# Altium integrated library Texas Instruments Interface I2C.IntLib: 424 symbols (part 9 of 23)
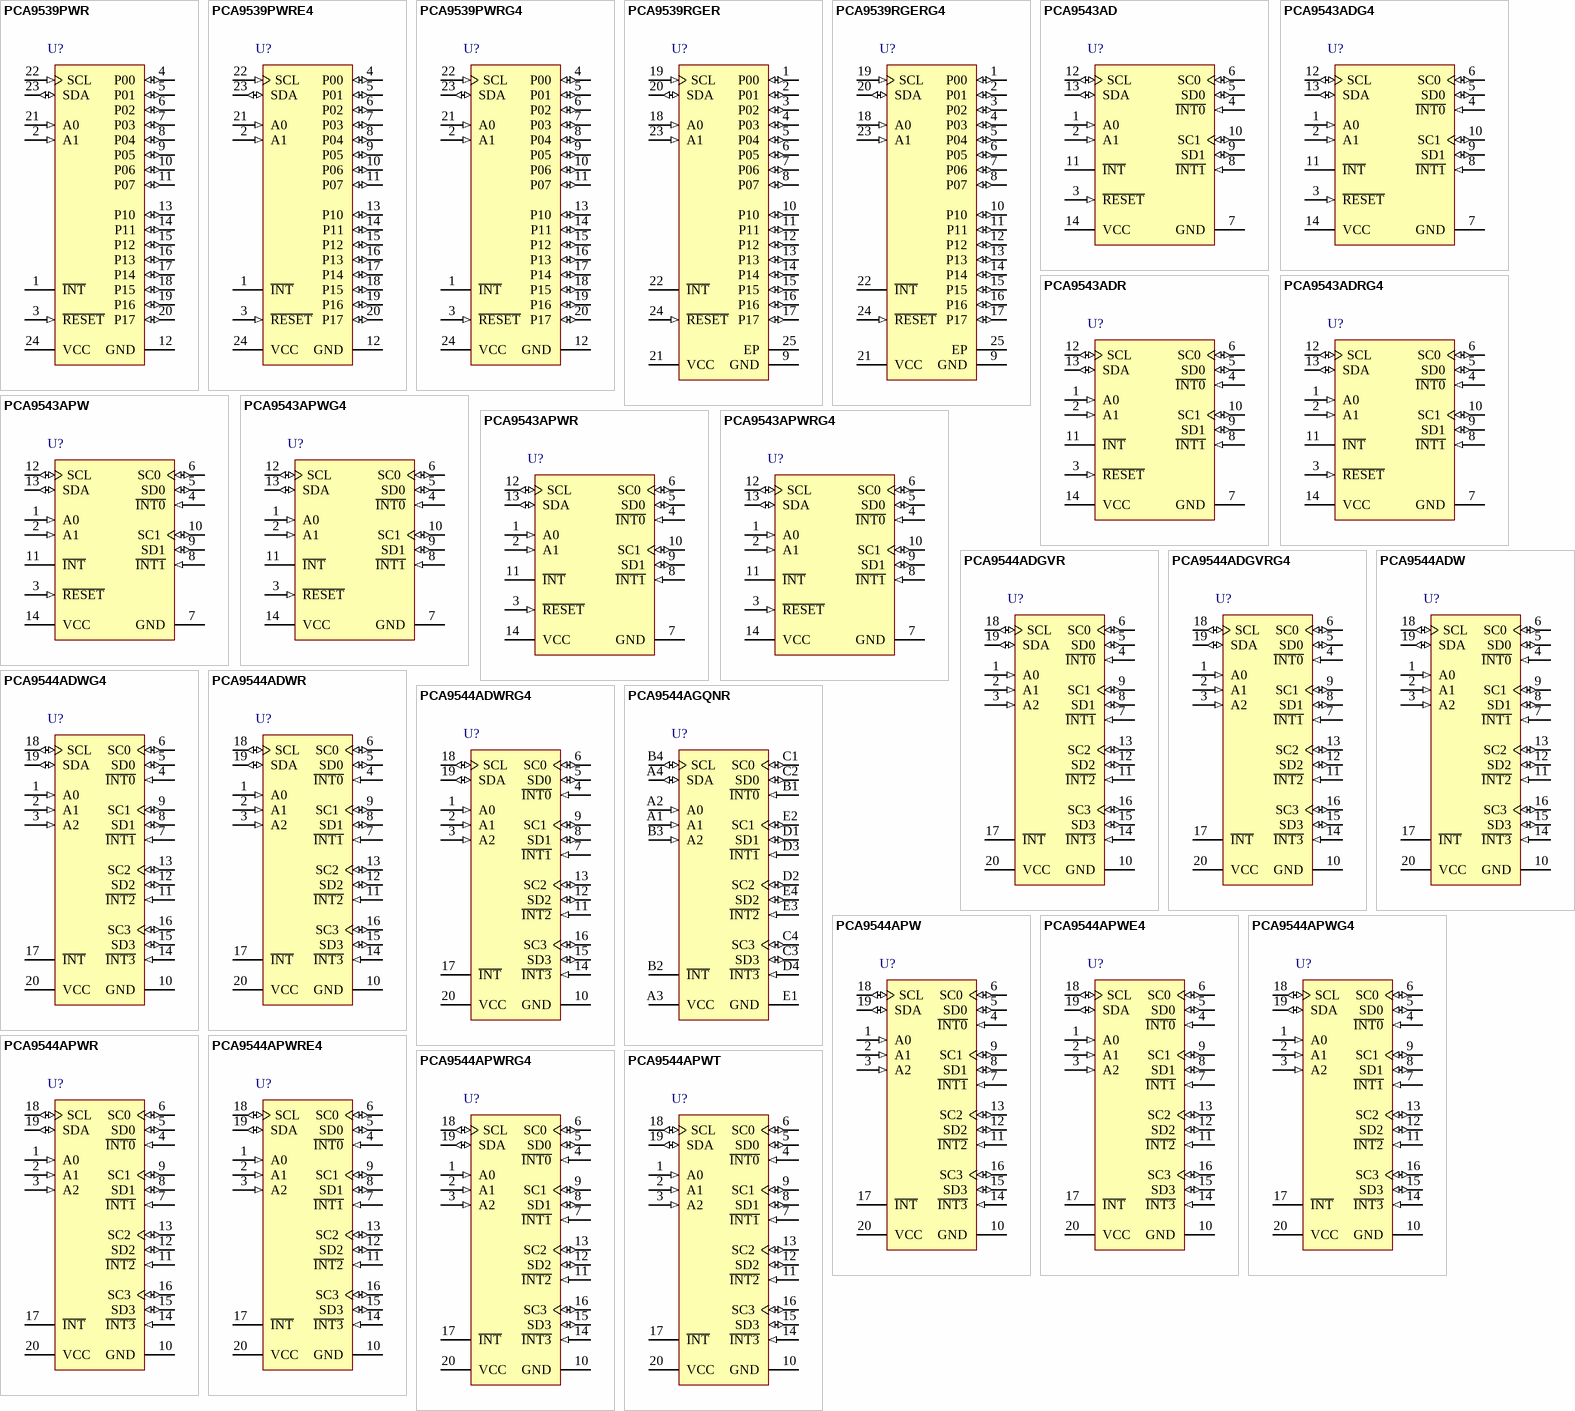
[diagram p21: symbols PCA9539PWR to PCA9544APWT]

## PCA9544APWG4
designator U?
4-Channel I2C and SMBus Multiplexer with Interrupt Logic, 2.3 to 5.5 V, -40 to 85 degC, 0-pin TSSOP (PW), Green (RoHS & no Sb/Br); Manufacturer: Texas Instruments; PartNumber: PCA9544APWG4; SubFamily: I2C Multiplexer, Switch; tpd max(ns): 0.3, 1; Interrupt Output: Yes; fSCLK(Max)(MHz): 0.1, 0.4; VCC(Min)(V): 2.3; VCC(Max)(V): 5.5; Max Frequency(kHz): 400; I2C Address: 1110 xxx; Channel Width: 4; Simultaneously Active Channels: 1; DatasheetVersion: SCPS146D; PackageVersion: revG, Feb-2011; PackageReference: PW20; PackageDescription: 20-Pin Plastic Thin Small Outline Package 6.5 x 4.4 mm Body ,0.65 mm Pitch; Supplier 1: Digi-Key; Supplier Part Number 1: PCA9544APWG4-ND; Supplier 2: Newark; Supplier Part Number 2: 46M6777; Supplier 3: Mouser; Supplier Part Number 3: 595-PCA9544APWG4; Eco-Plan: Green (RoHS & no Sb/Br); Vcc range(V): 2.3 to 5.5; 5V Tolerant I/O: Yes; Open Drain I/O Type: Yes; Mounting Technology: Surface Mount; Code_JEDEC: MO-153; ComponentLink1Description: Datasheet; ComponentLink1URL: http://www.ti.com/general/docs/lit/getliterature.tsp?genericPartNumber=PCA9544A&fileType=pdf
footprint PW20_N (TSOP, 20-Leads, Body 6.5x4.4mm, Pitch 0.65mm, IPC Medium Density)
footprint PW20_L (TSOP, 20-Leads, Body 6.5x4.4mm, Pitch 0.65mm, IPC High Density)
footprint PW20_M (TSOP, 20-Leads, Body 6.5x4.4mm, Pitch 0.65mm, IPC Low Density)
pins: 1 A0 (in) "Address input 0. Connect directly to VCC or ground.", 2 A1 (in) "Address input 1. Connect directly to VCC or ground.", 3 A2 (in) "Address input 2. Connect directly to VCC or ground.", 4 ~{INT0} (in) "Active-low interrupt input 0. Connect to VCC through a pullup resistor.", 5 SD0 (io) "Serial data 0. Connect to VCC through a pullup resistor.", 6 SC0 (io) "Serial clock 0. Connect to VCC through a pullup resistor.", 7 ~{INT1} (in) "Active-low interrupt input 1. Connect to VCC through a pullup resistor.", 8 SD1 (io) "Serial data 1. Connect to VCC through a pullup resistor.", 9 SC1 (io) "Serial clock 1. Connect to VCC through a pullup resistor.", 10 GND (power) "Ground", 11 ~{INT2} (in) "Active-low interrupt input 2. Connect to VCC through a pullup resistor.", 12 SD2 (io) "Serial data 2. Connect to VCC through a pullup resistor.", 13 SC2 (io) "Serial clock 2. Connect to VCC through a pullup resistor.", 14 ~{INT3} (in) "Active-low interrupt input 3. Connect to VCC through a pullup resistor.", 15 SD3 (io) "Serial data 3. Connect to VCC through a pullup resistor.", 16 SC3 (io) "Serial clock 3. Connect to VCC through a pullup resistor.", 17 ~{INT} (oc) "Active-low interrupt output. Connect to VCC through a pullup resistor.", 18 SCL (io) "Serial clock line. Connect to VCC through a pullup resistor.", 19 SDA (io) "Serial data line. Connect to VCC through a pullup resistor.", 20 VCC (power) "Supply power"

## PCA9544APWR
designator U?
4-Channel I2C and SMBus Multiplexer with Interrupt Logic, 2.3 to 5.5 V, -40 to 85 degC, 0-pin TSSOP (PW), Green (RoHS & no Sb/Br); Manufacturer: Texas Instruments; PartNumber: PCA9544APWR; SubFamily: I2C Multiplexer, Switch; tpd max(ns): 0.3, 1; Interrupt Output: Yes; fSCLK(Max)(MHz): 0.1, 0.4; VCC(Min)(V): 2.3; VCC(Max)(V): 5.5; Max Frequency(kHz): 400; I2C Address: 1110 xxx; Channel Width: 4; Simultaneously Active Channels: 1; DatasheetVersion: SCPS146D; PackageVersion: revG, Feb-2011; PackageReference: PW20; PackageDescription: 20-Pin Plastic Thin Small Outline Package 6.5 x 4.4 mm Body ,0.65 mm Pitch; Supplier 1: Digi-Key; Supplier Part Number 1: 296-20959-2-ND; Supplier 2: Digi-Key; Supplier Part Number 2: 296-20959-1-ND; Supplier 3: Digi-Key; Supplier Part Number 3: 296-20959-6-ND; Supplier 4: Farnell; Supplier Part Number 4: 1575274; Supplier 5: Newark; Supplier Part Number 5: 66K4024; Supplier 6: Mouser; Supplier Part Number 6: 595-PCA9544APWR; Eco-Plan: Green (RoHS & no Sb/Br); Vcc range(V): 2.3 to 5.5; 5V Tolerant I/O: Yes; Open Drain I/O Type: Yes; Mounting Technology: Surface Mount; Code_JEDEC: MO-153; ComponentLink1Description: Datasheet; ComponentLink1URL: http://www.ti.com/general/docs/lit/getliterature.tsp?genericPartNumber=PCA9544A&fileType=pdf
footprint PW20_N (TSOP, 20-Leads, Body 6.5x4.4mm, Pitch 0.65mm, IPC Medium Density)
footprint PW20_L (TSOP, 20-Leads, Body 6.5x4.4mm, Pitch 0.65mm, IPC High Density)
footprint PW20_M (TSOP, 20-Leads, Body 6.5x4.4mm, Pitch 0.65mm, IPC Low Density)
pins: 1 A0 (in) "Address input 0. Connect directly to VCC or ground.", 2 A1 (in) "Address input 1. Connect directly to VCC or ground.", 3 A2 (in) "Address input 2. Connect directly to VCC or ground.", 4 ~{INT0} (in) "Active-low interrupt input 0. Connect to VCC through a pullup resistor.", 5 SD0 (io) "Serial data 0. Connect to VCC through a pullup resistor.", 6 SC0 (io) "Serial clock 0. Connect to VCC through a pullup resistor.", 7 ~{INT1} (in) "Active-low interrupt input 1. Connect to VCC through a pullup resistor.", 8 SD1 (io) "Serial data 1. Connect to VCC through a pullup resistor.", 9 SC1 (io) "Serial clock 1. Connect to VCC through a pullup resistor.", 10 GND (power) "Ground", 11 ~{INT2} (in) "Active-low interrupt input 2. Connect to VCC through a pullup resistor.", 12 SD2 (io) "Serial data 2. Connect to VCC through a pullup resistor.", 13 SC2 (io) "Serial clock 2. Connect to VCC through a pullup resistor.", 14 ~{INT3} (in) "Active-low interrupt input 3. Connect to VCC through a pullup resistor.", 15 SD3 (io) "Serial data 3. Connect to VCC through a pullup resistor.", 16 SC3 (io) "Serial clock 3. Connect to VCC through a pullup resistor.", 17 ~{INT} (oc) "Active-low interrupt output. Connect to VCC through a pullup resistor.", 18 SCL (io) "Serial clock line. Connect to VCC through a pullup resistor.", 19 SDA (io) "Serial data line. Connect to VCC through a pullup resistor.", 20 VCC (power) "Supply power"

## PCA9544APWRE4
designator U?
4-Channel I2C and SMBus Multiplexer with Interrupt Logic, 2.3 to 5.5 V, -40 to 85 degC, 0-pin TSSOP (PW), Green (RoHS & no Sb/Br); Manufacturer: Texas Instruments; PartNumber: PCA9544APWRE4; SubFamily: I2C Multiplexer, Switch; tpd max(ns): 0.3, 1; Interrupt Output: Yes; fSCLK(Max)(MHz): 0.1, 0.4; VCC(Min)(V): 2.3; VCC(Max)(V): 5.5; Max Frequency(kHz): 400; I2C Address: 1110 xxx; Channel Width: 4; Simultaneously Active Channels: 1; DatasheetVersion: SCPS146D; PackageVersion: revG, Feb-2011; PackageReference: PW20; PackageDescription: 20-Pin Plastic Thin Small Outline Package 6.5 x 4.4 mm Body ,0.65 mm Pitch; Supplier 1: Digi-Key; Supplier Part Number 1: PCA9544APWRE4-ND; Supplier 2: Mouser; Supplier Part Number 2: 595-PCA9544APWRE4; Eco-Plan: Green (RoHS & no Sb/Br); Vcc range(V): 2.3 to 5.5; 5V Tolerant I/O: Yes; Open Drain I/O Type: Yes; Mounting Technology: Surface Mount; Code_JEDEC: MO-153; ComponentLink1Description: Datasheet; ComponentLink1URL: http://www.ti.com/general/docs/lit/getliterature.tsp?genericPartNumber=PCA9544A&fileType=pdf
footprint PW20_N (TSOP, 20-Leads, Body 6.5x4.4mm, Pitch 0.65mm, IPC Medium Density)
footprint PW20_L (TSOP, 20-Leads, Body 6.5x4.4mm, Pitch 0.65mm, IPC High Density)
footprint PW20_M (TSOP, 20-Leads, Body 6.5x4.4mm, Pitch 0.65mm, IPC Low Density)
pins: 1 A0 (in) "Address input 0. Connect directly to VCC or ground.", 2 A1 (in) "Address input 1. Connect directly to VCC or ground.", 3 A2 (in) "Address input 2. Connect directly to VCC or ground.", 4 ~{INT0} (in) "Active-low interrupt input 0. Connect to VCC through a pullup resistor.", 5 SD0 (io) "Serial data 0. Connect to VCC through a pullup resistor.", 6 SC0 (io) "Serial clock 0. Connect to VCC through a pullup resistor.", 7 ~{INT1} (in) "Active-low interrupt input 1. Connect to VCC through a pullup resistor.", 8 SD1 (io) "Serial data 1. Connect to VCC through a pullup resistor.", 9 SC1 (io) "Serial clock 1. Connect to VCC through a pullup resistor.", 10 GND (power) "Ground", 11 ~{INT2} (in) "Active-low interrupt input 2. Connect to VCC through a pullup resistor.", 12 SD2 (io) "Serial data 2. Connect to VCC through a pullup resistor.", 13 SC2 (io) "Serial clock 2. Connect to VCC through a pullup resistor.", 14 ~{INT3} (in) "Active-low interrupt input 3. Connect to VCC through a pullup resistor.", 15 SD3 (io) "Serial data 3. Connect to VCC through a pullup resistor.", 16 SC3 (io) "Serial clock 3. Connect to VCC through a pullup resistor.", 17 ~{INT} (oc) "Active-low interrupt output. Connect to VCC through a pullup resistor.", 18 SCL (io) "Serial clock line. Connect to VCC through a pullup resistor.", 19 SDA (io) "Serial data line. Connect to VCC through a pullup resistor.", 20 VCC (power) "Supply power"

## PCA9544APWRG4
designator U?
4-Channel I2C and SMBus Multiplexer with Interrupt Logic, 2.3 to 5.5 V, -40 to 85 degC, 0-pin TSSOP (PW), Green (RoHS & no Sb/Br); Manufacturer: Texas Instruments; PartNumber: PCA9544APWRG4; SubFamily: I2C Multiplexer, Switch; tpd max(ns): 0.3, 1; Interrupt Output: Yes; fSCLK(Max)(MHz): 0.1, 0.4; VCC(Min)(V): 2.3; VCC(Max)(V): 5.5; Max Frequency(kHz): 400; I2C Address: 1110 xxx; Channel Width: 4; Simultaneously Active Channels: 1; DatasheetVersion: SCPS146D; PackageVersion: revG, Feb-2011; PackageReference: PW20; PackageDescription: 20-Pin Plastic Thin Small Outline Package 6.5 x 4.4 mm Body ,0.65 mm Pitch; Supplier 1: Digi-Key; Supplier Part Number 1: PCA9544APWRG4-ND; Supplier 2: Mouser; Supplier Part Number 2: 595-PCA9544APWRG4; Eco-Plan: Green (RoHS & no Sb/Br); Vcc range(V): 2.3 to 5.5; 5V Tolerant I/O: Yes; Open Drain I/O Type: Yes; Mounting Technology: Surface Mount; Code_JEDEC: MO-153; ComponentLink1Description: Datasheet; ComponentLink1URL: http://www.ti.com/general/docs/lit/getliterature.tsp?genericPartNumber=PCA9544A&fileType=pdf
footprint PW20_N (TSOP, 20-Leads, Body 6.5x4.4mm, Pitch 0.65mm, IPC Medium Density)
footprint PW20_L (TSOP, 20-Leads, Body 6.5x4.4mm, Pitch 0.65mm, IPC High Density)
footprint PW20_M (TSOP, 20-Leads, Body 6.5x4.4mm, Pitch 0.65mm, IPC Low Density)
pins: 1 A0 (in) "Address input 0. Connect directly to VCC or ground.", 2 A1 (in) "Address input 1. Connect directly to VCC or ground.", 3 A2 (in) "Address input 2. Connect directly to VCC or ground.", 4 ~{INT0} (in) "Active-low interrupt input 0. Connect to VCC through a pullup resistor.", 5 SD0 (io) "Serial data 0. Connect to VCC through a pullup resistor.", 6 SC0 (io) "Serial clock 0. Connect to VCC through a pullup resistor.", 7 ~{INT1} (in) "Active-low interrupt input 1. Connect to VCC through a pullup resistor.", 8 SD1 (io) "Serial data 1. Connect to VCC through a pullup resistor.", 9 SC1 (io) "Serial clock 1. Connect to VCC through a pullup resistor.", 10 GND (power) "Ground", 11 ~{INT2} (in) "Active-low interrupt input 2. Connect to VCC through a pullup resistor.", 12 SD2 (io) "Serial data 2. Connect to VCC through a pullup resistor.", 13 SC2 (io) "Serial clock 2. Connect to VCC through a pullup resistor.", 14 ~{INT3} (in) "Active-low interrupt input 3. Connect to VCC through a pullup resistor.", 15 SD3 (io) "Serial data 3. Connect to VCC through a pullup resistor.", 16 SC3 (io) "Serial clock 3. Connect to VCC through a pullup resistor.", 17 ~{INT} (oc) "Active-low interrupt output. Connect to VCC through a pullup resistor.", 18 SCL (io) "Serial clock line. Connect to VCC through a pullup resistor.", 19 SDA (io) "Serial data line. Connect to VCC through a pullup resistor.", 20 VCC (power) "Supply power"

## PCA9544APWT
designator U?
4-Channel I2C and SMBus Multiplexer with Interrupt Logic, 2.3 to 5.5 V, -40 to 85 degC, 0-pin TSSOP (PW), Green (RoHS & no Sb/Br); Manufacturer: Texas Instruments; PartNumber: PCA9544APWT; SubFamily: I2C Multiplexer, Switch; tpd max(ns): 0.3, 1; Interrupt Output: Yes; fSCLK(Max)(MHz): 0.1, 0.4; VCC(Min)(V): 2.3; VCC(Max)(V): 5.5; Max Frequency(kHz): 400; I2C Address: 1110 xxx; Channel Width: 4; Simultaneously Active Channels: 1; DatasheetVersion: SCPS146D; PackageVersion: revG, Feb-2011; PackageReference: PW20; PackageDescription: 20-Pin Plastic Thin Small Outline Package 6.5 x 4.4 mm Body ,0.65 mm Pitch; Supplier 1: Digi-Key; Supplier Part Number 1: 296-28988-2-ND; Supplier 2: Digi-Key; Supplier Part Number 2: 296-28988-1-ND; Supplier 3: Digi-Key; Supplier Part Number 3: 296-28988-6-ND; Supplier 4: Mouser; Supplier Part Number 4: 595-PCA9544APWT; Eco-Plan: Green (RoHS & no Sb/Br); Vcc range(V): 2.3 to 5.5; 5V Tolerant I/O: Yes; Open Drain I/O Type: Yes; Mounting Technology: Surface Mount; Code_JEDEC: MO-153; ComponentLink1Description: Datasheet; ComponentLink1URL: http://www.ti.com/general/docs/lit/getliterature.tsp?genericPartNumber=PCA9544A&fileType=pdf
footprint PW20_N (TSOP, 20-Leads, Body 6.5x4.4mm, Pitch 0.65mm, IPC Medium Density)
footprint PW20_L (TSOP, 20-Leads, Body 6.5x4.4mm, Pitch 0.65mm, IPC High Density)
footprint PW20_M (TSOP, 20-Leads, Body 6.5x4.4mm, Pitch 0.65mm, IPC Low Density)
pins: 1 A0 (in) "Address input 0. Connect directly to VCC or ground.", 2 A1 (in) "Address input 1. Connect directly to VCC or ground.", 3 A2 (in) "Address input 2. Connect directly to VCC or ground.", 4 ~{INT0} (in) "Active-low interrupt input 0. Connect to VCC through a pullup resistor.", 5 SD0 (io) "Serial data 0. Connect to VCC through a pullup resistor.", 6 SC0 (io) "Serial clock 0. Connect to VCC through a pullup resistor.", 7 ~{INT1} (in) "Active-low interrupt input 1. Connect to VCC through a pullup resistor.", 8 SD1 (io) "Serial data 1. Connect to VCC through a pullup resistor.", 9 SC1 (io) "Serial clock 1. Connect to VCC through a pullup resistor.", 10 GND (power) "Ground", 11 ~{INT2} (in) "Active-low interrupt input 2. Connect to VCC through a pullup resistor.", 12 SD2 (io) "Serial data 2. Connect to VCC through a pullup resistor.", 13 SC2 (io) "Serial clock 2. Connect to VCC through a pullup resistor.", 14 ~{INT3} (in) "Active-low interrupt input 3. Connect to VCC through a pullup resistor.", 15 SD3 (io) "Serial data 3. Connect to VCC through a pullup resistor.", 16 SC3 (io) "Serial clock 3. Connect to VCC through a pullup resistor.", 17 ~{INT} (oc) "Active-low interrupt output. Connect to VCC through a pullup resistor.", 18 SCL (io) "Serial clock line. Connect to VCC through a pullup resistor.", 19 SDA (io) "Serial data line. Connect to VCC through a pullup resistor.", 20 VCC (power) "Supply power"

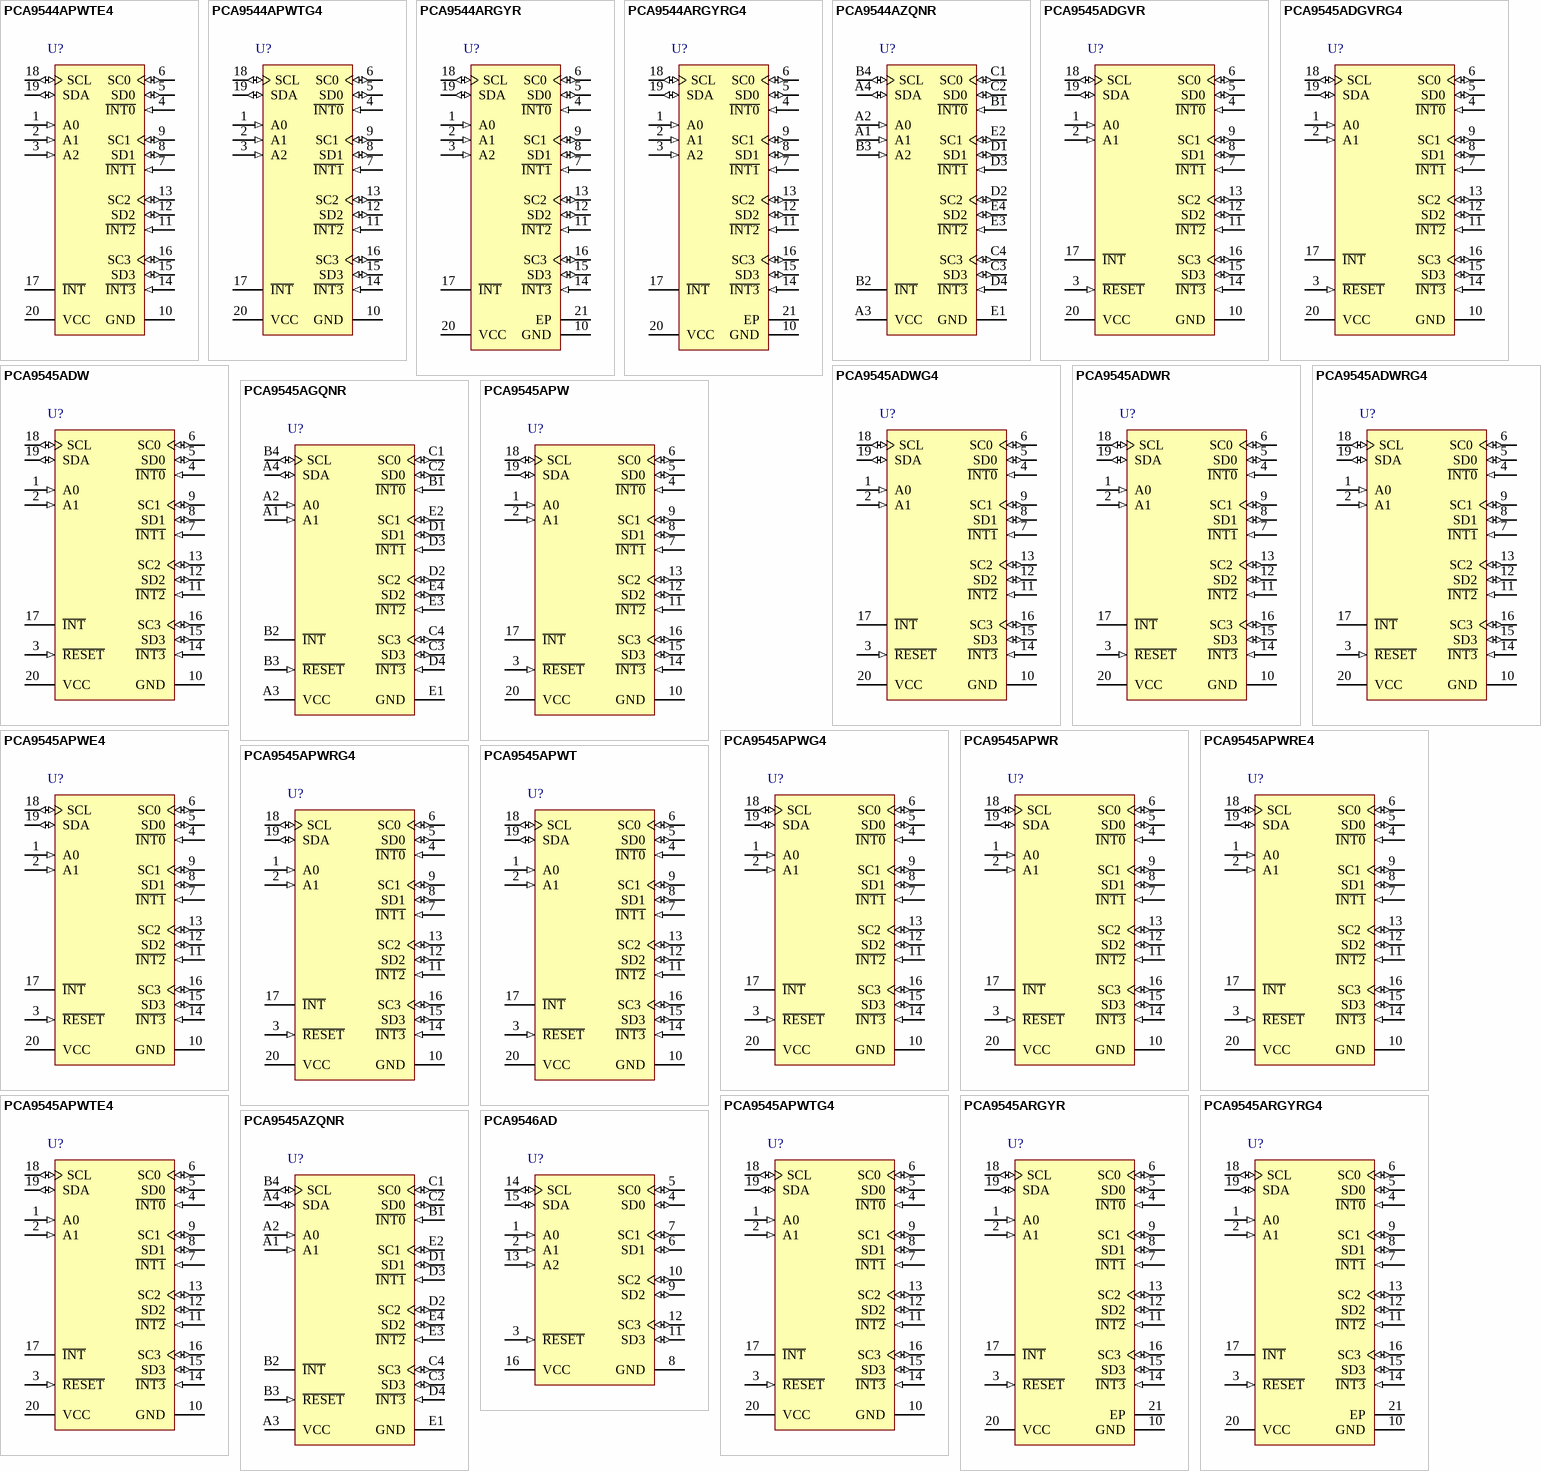
[diagram p5: symbols PCA9544APWTE4 to PCA9546AD]

## PCA9544APWTE4
designator U?
4-Channel I2C and SMBus Multiplexer with Interrupt Logic, 2.3 to 5.5 V, -40 to 85 degC, 0-pin TSSOP (PW), Green (RoHS & no Sb/Br); Manufacturer: Texas Instruments; PartNumber: PCA9544APWTE4; SubFamily: I2C Multiplexer, Switch; tpd max(ns): 0.3, 1; Interrupt Output: Yes; fSCLK(Max)(MHz): 0.1, 0.4; VCC(Min)(V): 2.3; VCC(Max)(V): 5.5; Max Frequency(kHz): 400; I2C Address: 1110 xxx; Channel Width: 4; Simultaneously Active Channels: 1; DatasheetVersion: SCPS146D; PackageVersion: revG, Feb-2011; PackageReference: PW20; PackageDescription: 20-Pin Plastic Thin Small Outline Package 6.5 x 4.4 mm Body ,0.65 mm Pitch; Supplier 1: Digi-Key; Supplier Part Number 1: PCA9544APWTE4-ND; Supplier 2: Mouser; Supplier Part Number 2: 595-PCA9544APWTE4; Eco-Plan: Green (RoHS & no Sb/Br); Vcc range(V): 2.3 to 5.5; 5V Tolerant I/O: Yes; Open Drain I/O Type: Yes; Mounting Technology: Surface Mount; Code_JEDEC: MO-153; ComponentLink1Description: Datasheet; ComponentLink1URL: http://www.ti.com/general/docs/lit/getliterature.tsp?genericPartNumber=PCA9544A&fileType=pdf
footprint PW20_N (TSOP, 20-Leads, Body 6.5x4.4mm, Pitch 0.65mm, IPC Medium Density)
footprint PW20_L (TSOP, 20-Leads, Body 6.5x4.4mm, Pitch 0.65mm, IPC High Density)
footprint PW20_M (TSOP, 20-Leads, Body 6.5x4.4mm, Pitch 0.65mm, IPC Low Density)
pins: 1 A0 (in) "Address input 0. Connect directly to VCC or ground.", 2 A1 (in) "Address input 1. Connect directly to VCC or ground.", 3 A2 (in) "Address input 2. Connect directly to VCC or ground.", 4 ~{INT0} (in) "Active-low interrupt input 0. Connect to VCC through a pullup resistor.", 5 SD0 (io) "Serial data 0. Connect to VCC through a pullup resistor.", 6 SC0 (io) "Serial clock 0. Connect to VCC through a pullup resistor.", 7 ~{INT1} (in) "Active-low interrupt input 1. Connect to VCC through a pullup resistor.", 8 SD1 (io) "Serial data 1. Connect to VCC through a pullup resistor.", 9 SC1 (io) "Serial clock 1. Connect to VCC through a pullup resistor.", 10 GND (power) "Ground", 11 ~{INT2} (in) "Active-low interrupt input 2. Connect to VCC through a pullup resistor.", 12 SD2 (io) "Serial data 2. Connect to VCC through a pullup resistor.", 13 SC2 (io) "Serial clock 2. Connect to VCC through a pullup resistor.", 14 ~{INT3} (in) "Active-low interrupt input 3. Connect to VCC through a pullup resistor.", 15 SD3 (io) "Serial data 3. Connect to VCC through a pullup resistor.", 16 SC3 (io) "Serial clock 3. Connect to VCC through a pullup resistor.", 17 ~{INT} (oc) "Active-low interrupt output. Connect to VCC through a pullup resistor.", 18 SCL (io) "Serial clock line. Connect to VCC through a pullup resistor.", 19 SDA (io) "Serial data line. Connect to VCC through a pullup resistor.", 20 VCC (power) "Supply power"

## PCA9544APWTG4
designator U?
4-Channel I2C and SMBus Multiplexer with Interrupt Logic, 2.3 to 5.5 V, -40 to 85 degC, 0-pin TSSOP (PW), Green (RoHS & no Sb/Br); Manufacturer: Texas Instruments; PartNumber: PCA9544APWTG4; SubFamily: I2C Multiplexer, Switch; tpd max(ns): 0.3, 1; Interrupt Output: Yes; fSCLK(Max)(MHz): 0.1, 0.4; VCC(Min)(V): 2.3; VCC(Max)(V): 5.5; Max Frequency(kHz): 400; I2C Address: 1110 xxx; Channel Width: 4; Simultaneously Active Channels: 1; DatasheetVersion: SCPS146D; PackageVersion: revG, Feb-2011; PackageReference: PW20; PackageDescription: 20-Pin Plastic Thin Small Outline Package 6.5 x 4.4 mm Body ,0.65 mm Pitch; Supplier 1: Digi-Key; Supplier Part Number 1: PCA9544APWTG4-ND; Supplier 2: Mouser; Supplier Part Number 2: 595-PCA9544APWTG4; Eco-Plan: Green (RoHS & no Sb/Br); Vcc range(V): 2.3 to 5.5; 5V Tolerant I/O: Yes; Open Drain I/O Type: Yes; Mounting Technology: Surface Mount; Code_JEDEC: MO-153; ComponentLink1Description: Datasheet; ComponentLink1URL: http://www.ti.com/general/docs/lit/getliterature.tsp?genericPartNumber=PCA9544A&fileType=pdf
footprint PW20_N (TSOP, 20-Leads, Body 6.5x4.4mm, Pitch 0.65mm, IPC Medium Density)
footprint PW20_L (TSOP, 20-Leads, Body 6.5x4.4mm, Pitch 0.65mm, IPC High Density)
footprint PW20_M (TSOP, 20-Leads, Body 6.5x4.4mm, Pitch 0.65mm, IPC Low Density)
pins: 1 A0 (in) "Address input 0. Connect directly to VCC or ground.", 2 A1 (in) "Address input 1. Connect directly to VCC or ground.", 3 A2 (in) "Address input 2. Connect directly to VCC or ground.", 4 ~{INT0} (in) "Active-low interrupt input 0. Connect to VCC through a pullup resistor.", 5 SD0 (io) "Serial data 0. Connect to VCC through a pullup resistor.", 6 SC0 (io) "Serial clock 0. Connect to VCC through a pullup resistor.", 7 ~{INT1} (in) "Active-low interrupt input 1. Connect to VCC through a pullup resistor.", 8 SD1 (io) "Serial data 1. Connect to VCC through a pullup resistor.", 9 SC1 (io) "Serial clock 1. Connect to VCC through a pullup resistor.", 10 GND (power) "Ground", 11 ~{INT2} (in) "Active-low interrupt input 2. Connect to VCC through a pullup resistor.", 12 SD2 (io) "Serial data 2. Connect to VCC through a pullup resistor.", 13 SC2 (io) "Serial clock 2. Connect to VCC through a pullup resistor.", 14 ~{INT3} (in) "Active-low interrupt input 3. Connect to VCC through a pullup resistor.", 15 SD3 (io) "Serial data 3. Connect to VCC through a pullup resistor.", 16 SC3 (io) "Serial clock 3. Connect to VCC through a pullup resistor.", 17 ~{INT} (oc) "Active-low interrupt output. Connect to VCC through a pullup resistor.", 18 SCL (io) "Serial clock line. Connect to VCC through a pullup resistor.", 19 SDA (io) "Serial data line. Connect to VCC through a pullup resistor.", 20 VCC (power) "Supply power"

## PCA9544ARGYR
designator U?
4-Channel I2C and SMBus Multiplexer with Interrupt Logic, 2.3 to 5.5 V, -40 to 85 degC, 20-pin VQFN (RGY), Green (RoHS & no Sb/Br); Manufacturer: Texas Instruments; PartNumber: PCA9544ARGYR; SubFamily: I2C Multiplexer, Switch; tpd max(ns): 0.3, 1; Interrupt Output: Yes; fSCLK(Max)(MHz): 0.1, 0.4; VCC(Min)(V): 2.3; VCC(Max)(V): 5.5; Max Frequency(kHz): 400; I2C Address: 1110 xxx; Channel Width: 4; Simultaneously Active Channels: 1; DatasheetVersion: SCPS146D; PackageVersion: revI, Jun-2011; PackageReference: RGY20-3050X2050TP; PackageDescription: 20-Leads Plastic Quad Flatpack No-Lead, 3.5 x 4.5 x 0.9 mm Body, 0.5 mm Pitch; Supplier 1: Digi-Key; Supplier Part Number 1: 296-20960-2-ND; Supplier 2: Digi-Key; Supplier Part Number 2: 296-20960-1-ND; Supplier 3: Digi-Key; Supplier Part Number 3: 296-20960-6-ND; Supplier 4: Mouser; Supplier Part Number 4: 595-PCA9544ARGYR; Eco-Plan: Green (RoHS & no Sb/Br); Vcc range(V): 2.3 to 5.5; 5V Tolerant I/O: Yes; Open Drain I/O Type: Yes; Mounting Technology: Surface Mount; Code_JEDEC: MO-241-BA; ComponentLink1Description: Datasheet; ComponentLink1URL: http://www.ti.com/general/docs/lit/getliterature.tsp?genericPartNumber=PCA9544A&fileType=pdf; ComponentLink2Description: Package Specification; ComponentLink2URL: http://www.ti.com/litv/pdf/mpds006c
footprint RGY20-3050X2050TP (QFN, 20-Leads, Body 4.5x3.5mm, Pitch 0.5mm, Thermal Pad 3.05x2.05mm, TI Recommended)
pins: 1 A0 (in) "Address input 0. Connect directly to VCC or ground.", 2 A1 (in) "Address input 1. Connect directly to VCC or ground.", 3 A2 (in) "Address input 2. Connect directly to VCC or ground.", 4 ~{INT0} (in) "Active-low interrupt input 0. Connect to VCC through a pullup resistor.", 5 SD0 (io) "Serial data 0. Connect to VCC through a pullup resistor.", 6 SC0 (io) "Serial clock 0. Connect to VCC through a pullup resistor.", 7 ~{INT1} (in) "Active-low interrupt input 1. Connect to VCC through a pullup resistor.", 8 SD1 (io) "Serial data 1. Connect to VCC through a pullup resistor.", 9 SC1 (io) "Serial clock 1. Connect to VCC through a pullup resistor.", 10 GND (power) "Ground", 11 ~{INT2} (in) "Active-low interrupt input 2. Connect to VCC through a pullup resistor.", 12 SD2 (io) "Serial data 2. Connect to VCC through a pullup resistor.", 13 SC2 (io) "Serial clock 2. Connect to VCC through a pullup resistor.", 14 ~{INT3} (in) "Active-low interrupt input 3. Connect to VCC through a pullup resistor.", 15 SD3 (io) "Serial data 3. Connect to VCC through a pullup resistor.", 16 SC3 (io) "Serial clock 3. Connect to VCC through a pullup resistor.", 17 ~{INT} (oc) "Active-low interrupt output. Connect to VCC through a pullup resistor.", 18 SCL (io) "Serial clock line. Connect to VCC through a pullup resistor.", 19 SDA (io) "Serial data line. Connect to VCC through a pullup resistor.", 20 VCC (power) "Supply power", 21 EP "Exposed Thermal Pad"

## PCA9544ARGYRG4
designator U?
4-Channel I2C and SMBus Multiplexer with Interrupt Logic, 2.3 to 5.5 V, -40 to 85 degC, 20-pin VQFN (RGY), Green (RoHS & no Sb/Br); Manufacturer: Texas Instruments; PartNumber: PCA9544ARGYRG4; SubFamily: I2C Multiplexer, Switch; tpd max(ns): 0.3, 1; Interrupt Output: Yes; fSCLK(Max)(MHz): 0.1, 0.4; VCC(Min)(V): 2.3; VCC(Max)(V): 5.5; Max Frequency(kHz): 400; I2C Address: 1110 xxx; Channel Width: 4; Simultaneously Active Channels: 1; DatasheetVersion: SCPS146D; PackageVersion: revI, Jun-2011; PackageReference: RGY20-3050X2050TP; PackageDescription: 20-Leads Plastic Quad Flatpack No-Lead, 3.5 x 4.5 x 0.9 mm Body, 0.5 mm Pitch; Supplier 1: Digi-Key; Supplier Part Number 1: PCA9544ARGYRG4-ND; Supplier 2: Mouser; Supplier Part Number 2: 595-PCA9544ARGYRG4; Eco-Plan: Green (RoHS & no Sb/Br); Vcc range(V): 2.3 to 5.5; 5V Tolerant I/O: Yes; Open Drain I/O Type: Yes; Mounting Technology: Surface Mount; Code_JEDEC: MO-241-BA; ComponentLink1Description: Datasheet; ComponentLink1URL: http://www.ti.com/general/docs/lit/getliterature.tsp?genericPartNumber=PCA9544A&fileType=pdf; ComponentLink2Description: Package Specification; ComponentLink2URL: http://www.ti.com/litv/pdf/mpds006c
footprint RGY20-3050X2050TP (QFN, 20-Leads, Body 4.5x3.5mm, Pitch 0.5mm, Thermal Pad 3.05x2.05mm, TI Recommended)
pins: 1 A0 (in) "Address input 0. Connect directly to VCC or ground.", 2 A1 (in) "Address input 1. Connect directly to VCC or ground.", 3 A2 (in) "Address input 2. Connect directly to VCC or ground.", 4 ~{INT0} (in) "Active-low interrupt input 0. Connect to VCC through a pullup resistor.", 5 SD0 (io) "Serial data 0. Connect to VCC through a pullup resistor.", 6 SC0 (io) "Serial clock 0. Connect to VCC through a pullup resistor.", 7 ~{INT1} (in) "Active-low interrupt input 1. Connect to VCC through a pullup resistor.", 8 SD1 (io) "Serial data 1. Connect to VCC through a pullup resistor.", 9 SC1 (io) "Serial clock 1. Connect to VCC through a pullup resistor.", 10 GND (power) "Ground", 11 ~{INT2} (in) "Active-low interrupt input 2. Connect to VCC through a pullup resistor.", 12 SD2 (io) "Serial data 2. Connect to VCC through a pullup resistor.", 13 SC2 (io) "Serial clock 2. Connect to VCC through a pullup resistor.", 14 ~{INT3} (in) "Active-low interrupt input 3. Connect to VCC through a pullup resistor.", 15 SD3 (io) "Serial data 3. Connect to VCC through a pullup resistor.", 16 SC3 (io) "Serial clock 3. Connect to VCC through a pullup resistor.", 17 ~{INT} (oc) "Active-low interrupt output. Connect to VCC through a pullup resistor.", 18 SCL (io) "Serial clock line. Connect to VCC through a pullup resistor.", 19 SDA (io) "Serial data line. Connect to VCC through a pullup resistor.", 20 VCC (power) "Supply power", 21 EP "Exposed Thermal Pad"

## PCA9544AZQNR
designator U?
4-Channel I2C and SMBus Multiplexer with Interrupt Logic, 2.3 to 5.5 V, -40 to 85 degC, 20-pin BGA MICROSTAR JUNIOR (ZQN), Green (RoHS & no Sb/Br); Manufacturer: Texas Instruments; PartNumber: PCA9544AZQNR; SubFamily: I2C Multiplexer, Switch; tpd max(ns): 0.3, 1; Interrupt Output: Yes; fSCLK(Max)(MHz): 0.1, 0.4; VCC(Min)(V): 2.3; VCC(Max)(V): 5.5; Max Frequency(kHz): 400; I2C Address: 1110 xxx; Channel Width: 4; Simultaneously Active Channels: 1; DatasheetVersion: SCPS146D; PackageVersion: revC, Jun-2007; PackageReference: ZQN20; PackageDescription: 20-Ball Plastic Ball Grid Array, 4 x 3 mm Body, 0.65 mm Pitch, Pb-Free; Supplier 1: Digi-Key; Supplier Part Number 1: 296-20961-2-ND; Supplier 2: Digi-Key; Supplier Part Number 2: 296-20961-1-ND; Supplier 3: Digi-Key; Supplier Part Number 3: 296-20961-6-ND; Supplier 4: Mouser; Supplier Part Number 4: 595-PCA9544AZQNR; Eco-Plan: Green (RoHS & no Sb/Br); Vcc range(V): 2.3 to 5.5; 5V Tolerant I/O: Yes; Open Drain I/O Type: Yes; Mounting Technology: Surface Mount; Code_JEDEC: MO-285-BC-2; ComponentLink1Description: Datasheet; ComponentLink1URL: http://www.ti.com/general/docs/lit/getliterature.tsp?genericPartNumber=PCA9544A&fileType=pdf; ComponentLink2Description: Package Specification; ComponentLink2URL: http://www.ti.com/litv/pdf/mpds006c
footprint ZQN20 (BGA, 20-Leads, Body 4x3mm, Pitch 0.65mm)
pins: A1 (in) "Address input 1. Connect directly to VCC or ground.", A2 A0 (in) "Address input 0. Connect directly to VCC or ground.", A3 VCC (power) "Supply power", A4 SDA (io) "Serial data line. Connect to VCC through a pullup resistor.", B1 ~{INT0} (in) "Active-low interrupt input 0. Connect to VCC through a pullup resistor.", B2 ~{INT} (oc) "Active-low interrupt output. Connect to VCC through a pullup resistor.", B3 A2 (in) "Address input 2. Connect directly to VCC or ground.", B4 SCL (io) "Serial clock line. Connect to VCC through a pullup resistor.", C1 SC0 (io) "Serial clock 0. Connect to VCC through a pullup resistor.", C2 SD0 (io) "Serial data 0. Connect to VCC through a pullup resistor.", C3 SD3 (io) "Serial data 3. Connect to VCC through a pullup resistor.", C4 SC3 (io) "Serial clock 3. Connect to VCC through a pullup resistor.", D1 SD1 (io) "Serial data 1. Connect to VCC through a pullup resistor.", D2 SC2 (io) "Serial clock 2. Connect to VCC through a pullup resistor.", D3 ~{INT1} (in) "Active-low interrupt input 1. Connect to VCC through a pullup resistor.", D4 ~{INT3} (in) "Active-low interrupt input 3. Connect to VCC through a pullup resistor.", E1 GND (power) "Ground", E2 SC1 (io) "Serial clock 1. Connect to VCC through a pullup resistor.", E3 ~{INT2} (in) "Active-low interrupt input 2. Connect to VCC through a pullup resistor.", E4 SD2 (io) "Serial data 2. Connect to VCC through a pullup resistor."

## PCA9545ADGVR
designator U?
4-Channel I2C and SMBus Multiplexer with Interrupt Logic and Reset Function, 2.3 to 5.5 V, -40 to 85 degC, 20-pin TVSOP (DGV), Green (RoHS & no Sb/Br); Manufacturer: Texas Instruments; PartNumber: PCA9545ADGVR; SubFamily: I2C Multiplexer, Switch; tpd max(ns): 1; Interrupt Output: Yes; fSCLK(Max)(MHz): 400; VCC(Min)(V): 2.3; VCC(Max)(V): 5.5; I2C Address: 1110 0xx; Channel Width: 4; Simultaneously Active Channels: 1 to 4; DatasheetVersion: SCPS147C; PackageVersion: revE, Aug-2000; PackageReference: DGV20; PackageDescription: 20-Pin Thin Shrink Small Outline Package 0.4 mm Pitch; Supplier 1: Digi-Key; Supplier Part Number 1: 296-20962-2-ND; Supplier 2: Digi-Key; Supplier Part Number 2: 296-20962-1-ND; Supplier 3: Digi-Key; Supplier Part Number 3: 296-20962-6-ND; Supplier 4: Mouser; Supplier Part Number 4: 595-PCA9545ADGVR; Eco-Plan: Green (RoHS & no Sb/Br); Max Frequency(kHz): 400; Vcc range(V): 2.3 to 5.5; Reset Input: Yes; 5V Tolerant I/O: Yes; Open Drain I/O Type: Yes; Mounting Technology: Surface Mount; Code_JEDEC: MO-194; ComponentLink1Description: Datasheet; ComponentLink1URL: http://www.ti.com/general/docs/lit/getliterature.tsp?genericPartNumber=PCA9545A&fileType=pdf; ComponentLink2Description: Package Specification; ComponentLink2URL: http://www.ti.com/litv/pdf/mpds006c
footprint DGV20_N (TSSOP, 20-Leads, Body 5x4.4mm, Pitch 0.4mm, IPC Medium Density)
footprint DGV20_L (TSSOP, 20-Leads, Body 5x4.4mm, Pitch 0.4mm, IPC High Density)
footprint DGV20_M (TSSOP, 20-Leads, Body 5x4.4mm, Pitch 0.4mm, IPC Low Density)
pins: 1 A0 (in) "Address input 0. Connect directly to VCC or ground.", 2 A1 (in) "Address input 1. Connect directly to VCC or ground.", 3 ~{RESET} (in) "Active-low reset input. Connect to VCC through a pullup resistor, if not used.", 4 ~{INT0} (in) "Active-low interrupt input 0. Connect to VCC through a pullup resistor.", 5 SD0 (io) "Serial data 0. Connect to VCC through a pullup resistor.", 6 SC0 (io) "Serial clock 0. Connect to VCC through a pullup resistor.", 7 ~{INT1} (in) "Active-low interrupt input 1. Connect to VCC through a pullup resistor.", 8 SD1 (io) "Serial data 1. Connect to VCC through a pullup resistor.", 9 SC1 (io) "Serial clock 1. Connect to VCC through a pullup resistor.", 10 GND (power) "Ground", 11 ~{INT2} (in) "Active-low interrupt input 2. Connect to VCC through a pullup resistor.", 12 SD2 (io) "Serial data 2. Connect to VCC through a pullup resistor.", 13 SC2 (io) "Serial clock 2. Connect to VCC through a pullup resistor.", 14 ~{INT3} (in) "Active-low interrupt input 3. Connect to VCC through a pullup resistor.", 15 SD3 (io) "Serial data 3. Connect to VCC through a pullup resistor.", 16 SC3 (io) "Serial clock 3. Connect to VCC through a pullup resistor.", 17 ~{INT} (oc) "Active-low interrupt output. Connect to VCC through a pullup resistor.", 18 SCL (io) "Serial clock line. Connect to VCC through a pullup resistor.", 19 SDA (io) "Serial data line. Connect to VCC through a pullup resistor.", 20 VCC (power) "Supply power"

## PCA9545ADGVRG4
designator U?
4-Channel I2C and SMBus Multiplexer with Interrupt Logic and Reset Function, 2.3 to 5.5 V, -40 to 85 degC, 20-pin TVSOP (DGV), Green (RoHS & no Sb/Br); Manufacturer: Texas Instruments; PartNumber: PCA9545ADGVRG4; SubFamily: I2C Multiplexer, Switch; tpd max(ns): 1; Interrupt Output: Yes; fSCLK(Max)(MHz): 400; VCC(Min)(V): 2.3; VCC(Max)(V): 5.5; I2C Address: 1110 0xx; Channel Width: 4; Simultaneously Active Channels: 1 to 4; DatasheetVersion: SCPS147C; PackageVersion: revE, Aug-2000; PackageReference: DGV20; PackageDescription: 20-Pin Thin Shrink Small Outline Package 0.4 mm Pitch; Supplier 1: Digi-Key; Supplier Part Number 1: PCA9545ADGVRG4-ND; Supplier 2: Newark; Supplier Part Number 2: 46M6780; Supplier 3: Mouser; Supplier Part Number 3: 595-PCA9545ADGVRG4; Eco-Plan: Green (RoHS & no Sb/Br); Max Frequency(kHz): 400; Vcc range(V): 2.3 to 5.5; Reset Input: Yes; 5V Tolerant I/O: Yes; Open Drain I/O Type: Yes; Mounting Technology: Surface Mount; Code_JEDEC: MO-194; ComponentLink1Description: Datasheet; ComponentLink1URL: http://www.ti.com/general/docs/lit/getliterature.tsp?genericPartNumber=PCA9545A&fileType=pdf; ComponentLink2Description: Package Specification; ComponentLink2URL: http://www.ti.com/litv/pdf/mpds006c
footprint DGV20_N (TSSOP, 20-Leads, Body 5x4.4mm, Pitch 0.4mm, IPC Medium Density)
footprint DGV20_L (TSSOP, 20-Leads, Body 5x4.4mm, Pitch 0.4mm, IPC High Density)
footprint DGV20_M (TSSOP, 20-Leads, Body 5x4.4mm, Pitch 0.4mm, IPC Low Density)
pins: 1 A0 (in) "Address input 0. Connect directly to VCC or ground.", 2 A1 (in) "Address input 1. Connect directly to VCC or ground.", 3 ~{RESET} (in) "Active-low reset input. Connect to VCC through a pullup resistor, if not used.", 4 ~{INT0} (in) "Active-low interrupt input 0. Connect to VCC through a pullup resistor.", 5 SD0 (io) "Serial data 0. Connect to VCC through a pullup resistor.", 6 SC0 (io) "Serial clock 0. Connect to VCC through a pullup resistor.", 7 ~{INT1} (in) "Active-low interrupt input 1. Connect to VCC through a pullup resistor.", 8 SD1 (io) "Serial data 1. Connect to VCC through a pullup resistor.", 9 SC1 (io) "Serial clock 1. Connect to VCC through a pullup resistor.", 10 GND (power) "Ground", 11 ~{INT2} (in) "Active-low interrupt input 2. Connect to VCC through a pullup resistor.", 12 SD2 (io) "Serial data 2. Connect to VCC through a pullup resistor.", 13 SC2 (io) "Serial clock 2. Connect to VCC through a pullup resistor.", 14 ~{INT3} (in) "Active-low interrupt input 3. Connect to VCC through a pullup resistor.", 15 SD3 (io) "Serial data 3. Connect to VCC through a pullup resistor.", 16 SC3 (io) "Serial clock 3. Connect to VCC through a pullup resistor.", 17 ~{INT} (oc) "Active-low interrupt output. Connect to VCC through a pullup resistor.", 18 SCL (io) "Serial clock line. Connect to VCC through a pullup resistor.", 19 SDA (io) "Serial data line. Connect to VCC through a pullup resistor.", 20 VCC (power) "Supply power"

## PCA9545ADW
designator U?
4-Channel I2C and SMBus Multiplexer with Interrupt Logic and Reset Function, 2.3 to 5.5 V, -40 to 85 degC, 20-pin SOIC (DW), Green (RoHS & no Sb/Br); Manufacturer: Texas Instruments; PartNumber: PCA9545ADW; SubFamily: I2C Multiplexer, Switch; tpd max(ns): 1; Interrupt Output: Yes; fSCLK(Max)(MHz): 400; VCC(Min)(V): 2.3; VCC(Max)(V): 5.5; I2C Address: 1110 0xx; Channel Width: 4; Simultaneously Active Channels: 1 to 4; DatasheetVersion: SCPS147C; PackageVersion: revG, Jan-2011; PackageReference: DW20; PackageDescription: 20-Pin Plastic Small Outline Integrated Circuit, 12.8 x 7.5 mm, Pitch 1.27 mm Pitch; Supplier 1: Digi-Key; Supplier Part Number 1: PCA9545ADW-ND; Supplier 2: Newark; Supplier Part Number 2: 66K4028; Supplier 3: Mouser; Supplier Part Number 3: 595-PCA9545ADW; Eco-Plan: Green (RoHS & no Sb/Br); Max Frequency(kHz): 400; Vcc range(V): 2.3 to 5.5; Reset Input: Yes; 5V Tolerant I/O: Yes; Open Drain I/O Type: Yes; Mounting Technology: Surface Mount; Code_JEDEC: MS-013-AC; ComponentLink1Description: Datasheet; ComponentLink1URL: http://www.ti.com/general/docs/lit/getliterature.tsp?genericPartNumber=PCA9545A&fileType=pdf; ComponentLink2Description: Package Specification; ComponentLink2URL: http://www.ti.com/litv/pdf/mpds006c
footprint DW20_N (SOIC, 20-Leads, Body 12.8x7.5mm, Pitch 1.27mm, IPC Medium Density)
footprint DW20_L (SOIC, 20-Leads, Body 12.8x7.5mm, Pitch 1.27mm, IPC High Density)
footprint DW20_M (SOIC, 20-Leads, Body 12.8x7.5mm, Pitch 1.27mm, IPC Low Density)
pins: 1 A0 (in) "Address input 0. Connect directly to VCC or ground.", 2 A1 (in) "Address input 1. Connect directly to VCC or ground.", 3 ~{RESET} (in) "Active-low reset input. Connect to VCC through a pullup resistor, if not used.", 4 ~{INT0} (in) "Active-low interrupt input 0. Connect to VCC through a pullup resistor.", 5 SD0 (io) "Serial data 0. Connect to VCC through a pullup resistor.", 6 SC0 (io) "Serial clock 0. Connect to VCC through a pullup resistor.", 7 ~{INT1} (in) "Active-low interrupt input 1. Connect to VCC through a pullup resistor.", 8 SD1 (io) "Serial data 1. Connect to VCC through a pullup resistor.", 9 SC1 (io) "Serial clock 1. Connect to VCC through a pullup resistor.", 10 GND (power) "Ground", 11 ~{INT2} (in) "Active-low interrupt input 2. Connect to VCC through a pullup resistor.", 12 SD2 (io) "Serial data 2. Connect to VCC through a pullup resistor.", 13 SC2 (io) "Serial clock 2. Connect to VCC through a pullup resistor.", 14 ~{INT3} (in) "Active-low interrupt input 3. Connect to VCC through a pullup resistor.", 15 SD3 (io) "Serial data 3. Connect to VCC through a pullup resistor.", 16 SC3 (io) "Serial clock 3. Connect to VCC through a pullup resistor.", 17 ~{INT} (oc) "Active-low interrupt output. Connect to VCC through a pullup resistor.", 18 SCL (io) "Serial clock line. Connect to VCC through a pullup resistor.", 19 SDA (io) "Serial data line. Connect to VCC through a pullup resistor.", 20 VCC (power) "Supply power"

## PCA9545ADWG4
designator U?
4-Channel I2C and SMBus Multiplexer with Interrupt Logic and Reset Function, 2.3 to 5.5 V, -40 to 85 degC, 20-pin SOIC (DW), Green (RoHS & no Sb/Br); Manufacturer: Texas Instruments; PartNumber: PCA9545ADWG4; SubFamily: I2C Multiplexer, Switch; tpd max(ns): 1; Interrupt Output: Yes; fSCLK(Max)(MHz): 400; VCC(Min)(V): 2.3; VCC(Max)(V): 5.5; I2C Address: 1110 0xx; Channel Width: 4; Simultaneously Active Channels: 1 to 4; DatasheetVersion: SCPS147C; PackageVersion: revG, Jan-2011; PackageReference: DW20; PackageDescription: 20-Pin Plastic Small Outline Integrated Circuit, 12.8 x 7.5 mm, Pitch 1.27 mm Pitch; Supplier 1: Digi-Key; Supplier Part Number 1: PCA9545ADWG4-ND; Supplier 2: Mouser; Supplier Part Number 2: 595-PCA9545ADWG4; Eco-Plan: Green (RoHS & no Sb/Br); Max Frequency(kHz): 400; Vcc range(V): 2.3 to 5.5; Reset Input: Yes; 5V Tolerant I/O: Yes; Open Drain I/O Type: Yes; Mounting Technology: Surface Mount; Code_JEDEC: MS-013-AC; ComponentLink1Description: Datasheet; ComponentLink1URL: http://www.ti.com/general/docs/lit/getliterature.tsp?genericPartNumber=PCA9545A&fileType=pdf; ComponentLink2Description: Package Specification; ComponentLink2URL: http://www.ti.com/litv/pdf/mpds006c
footprint DW20_N (SOIC, 20-Leads, Body 12.8x7.5mm, Pitch 1.27mm, IPC Medium Density)
footprint DW20_L (SOIC, 20-Leads, Body 12.8x7.5mm, Pitch 1.27mm, IPC High Density)
footprint DW20_M (SOIC, 20-Leads, Body 12.8x7.5mm, Pitch 1.27mm, IPC Low Density)
pins: 1 A0 (in) "Address input 0. Connect directly to VCC or ground.", 2 A1 (in) "Address input 1. Connect directly to VCC or ground.", 3 ~{RESET} (in) "Active-low reset input. Connect to VCC through a pullup resistor, if not used.", 4 ~{INT0} (in) "Active-low interrupt input 0. Connect to VCC through a pullup resistor.", 5 SD0 (io) "Serial data 0. Connect to VCC through a pullup resistor.", 6 SC0 (io) "Serial clock 0. Connect to VCC through a pullup resistor.", 7 ~{INT1} (in) "Active-low interrupt input 1. Connect to VCC through a pullup resistor.", 8 SD1 (io) "Serial data 1. Connect to VCC through a pullup resistor.", 9 SC1 (io) "Serial clock 1. Connect to VCC through a pullup resistor.", 10 GND (power) "Ground", 11 ~{INT2} (in) "Active-low interrupt input 2. Connect to VCC through a pullup resistor.", 12 SD2 (io) "Serial data 2. Connect to VCC through a pullup resistor.", 13 SC2 (io) "Serial clock 2. Connect to VCC through a pullup resistor.", 14 ~{INT3} (in) "Active-low interrupt input 3. Connect to VCC through a pullup resistor.", 15 SD3 (io) "Serial data 3. Connect to VCC through a pullup resistor.", 16 SC3 (io) "Serial clock 3. Connect to VCC through a pullup resistor.", 17 ~{INT} (oc) "Active-low interrupt output. Connect to VCC through a pullup resistor.", 18 SCL (io) "Serial clock line. Connect to VCC through a pullup resistor.", 19 SDA (io) "Serial data line. Connect to VCC through a pullup resistor.", 20 VCC (power) "Supply power"

## PCA9545ADWR
designator U?
4-Channel I2C and SMBus Multiplexer with Interrupt Logic and Reset Function, 2.3 to 5.5 V, -40 to 85 degC, 20-pin SOIC (DW), Green (RoHS & no Sb/Br); Manufacturer: Texas Instruments; PartNumber: PCA9545ADWR; SubFamily: I2C Multiplexer, Switch; tpd max(ns): 1; Interrupt Output: Yes; fSCLK(Max)(MHz): 400; VCC(Min)(V): 2.3; VCC(Max)(V): 5.5; I2C Address: 1110 0xx; Channel Width: 4; Simultaneously Active Channels: 1 to 4; DatasheetVersion: SCPS147C; PackageVersion: revG, Jan-2011; PackageReference: DW20; PackageDescription: 20-Pin Plastic Small Outline Integrated Circuit, 12.8 x 7.5 mm, Pitch 1.27 mm Pitch; Supplier 1: Digi-Key; Supplier Part Number 1: 296-19680-2-ND; Supplier 2: Digi-Key; Supplier Part Number 2: 296-19680-1-ND; Supplier 3: Digi-Key; Supplier Part Number 3: 296-19680-6-ND; Supplier 4: Newark; Supplier Part Number 4: 66K4029; Supplier 5: Mouser; Supplier Part Number 5: 595-PCA9545ADWR; Eco-Plan: Green (RoHS & no Sb/Br); Max Frequency(kHz): 400; Vcc range(V): 2.3 to 5.5; Reset Input: Yes; 5V Tolerant I/O: Yes; Open Drain I/O Type: Yes; Mounting Technology: Surface Mount; Code_JEDEC: MS-013-AC; ComponentLink1Description: Datasheet; ComponentLink1URL: http://www.ti.com/general/docs/lit/getliterature.tsp?genericPartNumber=PCA9545A&fileType=pdf; ComponentLink2Description: Package Specification; ComponentLink2URL: http://www.ti.com/litv/pdf/mpds006c
footprint DW20_N (SOIC, 20-Leads, Body 12.8x7.5mm, Pitch 1.27mm, IPC Medium Density)
footprint DW20_L (SOIC, 20-Leads, Body 12.8x7.5mm, Pitch 1.27mm, IPC High Density)
footprint DW20_M (SOIC, 20-Leads, Body 12.8x7.5mm, Pitch 1.27mm, IPC Low Density)
pins: 1 A0 (in) "Address input 0. Connect directly to VCC or ground.", 2 A1 (in) "Address input 1. Connect directly to VCC or ground.", 3 ~{RESET} (in) "Active-low reset input. Connect to VCC through a pullup resistor, if not used.", 4 ~{INT0} (in) "Active-low interrupt input 0. Connect to VCC through a pullup resistor.", 5 SD0 (io) "Serial data 0. Connect to VCC through a pullup resistor.", 6 SC0 (io) "Serial clock 0. Connect to VCC through a pullup resistor.", 7 ~{INT1} (in) "Active-low interrupt input 1. Connect to VCC through a pullup resistor.", 8 SD1 (io) "Serial data 1. Connect to VCC through a pullup resistor.", 9 SC1 (io) "Serial clock 1. Connect to VCC through a pullup resistor.", 10 GND (power) "Ground", 11 ~{INT2} (in) "Active-low interrupt input 2. Connect to VCC through a pullup resistor.", 12 SD2 (io) "Serial data 2. Connect to VCC through a pullup resistor.", 13 SC2 (io) "Serial clock 2. Connect to VCC through a pullup resistor.", 14 ~{INT3} (in) "Active-low interrupt input 3. Connect to VCC through a pullup resistor.", 15 SD3 (io) "Serial data 3. Connect to VCC through a pullup resistor.", 16 SC3 (io) "Serial clock 3. Connect to VCC through a pullup resistor.", 17 ~{INT} (oc) "Active-low interrupt output. Connect to VCC through a pullup resistor.", 18 SCL (io) "Serial clock line. Connect to VCC through a pullup resistor.", 19 SDA (io) "Serial data line. Connect to VCC through a pullup resistor.", 20 VCC (power) "Supply power"

## PCA9545ADWRG4
designator U?
4-Channel I2C and SMBus Multiplexer with Interrupt Logic and Reset Function, 2.3 to 5.5 V, -40 to 85 degC, 20-pin SOIC (DW), Green (RoHS & no Sb/Br); Manufacturer: Texas Instruments; PartNumber: PCA9545ADWRG4; SubFamily: I2C Multiplexer, Switch; tpd max(ns): 1; Interrupt Output: Yes; fSCLK(Max)(MHz): 400; VCC(Min)(V): 2.3; VCC(Max)(V): 5.5; I2C Address: 1110 0xx; Channel Width: 4; Simultaneously Active Channels: 1 to 4; DatasheetVersion: SCPS147C; PackageVersion: revG, Jan-2011; PackageReference: DW20; PackageDescription: 20-Pin Plastic Small Outline Integrated Circuit, 12.8 x 7.5 mm, Pitch 1.27 mm Pitch; Supplier 1: Digi-Key; Supplier Part Number 1: PCA9545ADWRG4-ND; Supplier 2: Mouser; Supplier Part Number 2: 595-PCA9545ADWRG4; Eco-Plan: Green (RoHS & no Sb/Br); Max Frequency(kHz): 400; Vcc range(V): 2.3 to 5.5; Reset Input: Yes; 5V Tolerant I/O: Yes; Open Drain I/O Type: Yes; Mounting Technology: Surface Mount; Code_JEDEC: MS-013-AC; ComponentLink1Description: Datasheet; ComponentLink1URL: http://www.ti.com/general/docs/lit/getliterature.tsp?genericPartNumber=PCA9545A&fileType=pdf; ComponentLink2Description: Package Specification; ComponentLink2URL: http://www.ti.com/litv/pdf/mpds006c
footprint DW20_N (SOIC, 20-Leads, Body 12.8x7.5mm, Pitch 1.27mm, IPC Medium Density)
footprint DW20_L (SOIC, 20-Leads, Body 12.8x7.5mm, Pitch 1.27mm, IPC High Density)
footprint DW20_M (SOIC, 20-Leads, Body 12.8x7.5mm, Pitch 1.27mm, IPC Low Density)
pins: 1 A0 (in) "Address input 0. Connect directly to VCC or ground.", 2 A1 (in) "Address input 1. Connect directly to VCC or ground.", 3 ~{RESET} (in) "Active-low reset input. Connect to VCC through a pullup resistor, if not used.", 4 ~{INT0} (in) "Active-low interrupt input 0. Connect to VCC through a pullup resistor.", 5 SD0 (io) "Serial data 0. Connect to VCC through a pullup resistor.", 6 SC0 (io) "Serial clock 0. Connect to VCC through a pullup resistor.", 7 ~{INT1} (in) "Active-low interrupt input 1. Connect to VCC through a pullup resistor.", 8 SD1 (io) "Serial data 1. Connect to VCC through a pullup resistor.", 9 SC1 (io) "Serial clock 1. Connect to VCC through a pullup resistor.", 10 GND (power) "Ground", 11 ~{INT2} (in) "Active-low interrupt input 2. Connect to VCC through a pullup resistor.", 12 SD2 (io) "Serial data 2. Connect to VCC through a pullup resistor.", 13 SC2 (io) "Serial clock 2. Connect to VCC through a pullup resistor.", 14 ~{INT3} (in) "Active-low interrupt input 3. Connect to VCC through a pullup resistor.", 15 SD3 (io) "Serial data 3. Connect to VCC through a pullup resistor.", 16 SC3 (io) "Serial clock 3. Connect to VCC through a pullup resistor.", 17 ~{INT} (oc) "Active-low interrupt output. Connect to VCC through a pullup resistor.", 18 SCL (io) "Serial clock line. Connect to VCC through a pullup resistor.", 19 SDA (io) "Serial data line. Connect to VCC through a pullup resistor.", 20 VCC (power) "Supply power"

## PCA9545AGQNR
designator U?
4-Channel I2C and SMBus Multiplexer with Interrupt Logic and Reset Function, 2.3 to 5.5 V, -40 to 85 degC, 20-pin BGA MICROSTAR JUNIOR (GQN); Manufacturer: Texas Instruments; PartNumber: PCA9545AGQNR; Eco-Plan: Green (RoHS & no Sb/Br); SubFamily: I2C Multiplexer, Switch; tpd max(ns): 1; Interrupt Output: Yes; fSCLK(Max)(MHz): 400; VCC(Min)(V): 2.3; VCC(Max)(V): 5.5; I2C Address: 1110 0xx; Channel Width: 4; Simultaneously Active Channels: 1 to 4; DatasheetVersion: SCPS147C; PackageVersion: revF, Jun-2007; PackageReference: GQN20; PackageDescription: 20-Ball Plastic Ball Grid Array, 4 x 3 mm Body, 0.65 mm Pitch; Supplier 1: Digi-Key; Supplier Part Number 1: PCA9545AGQNR-ND; Supplier 2: Mouser; Supplier Part Number 2: 595-PCA9545AGQNR; Max Frequency(kHz): 400; Vcc range(V): 2.3 to 5.5; Reset Input: Yes; 5V Tolerant I/O: Yes; Open Drain I/O Type: Yes; Mounting Technology: Surface Mount; Code_JEDEC: MO-285-BC-2; ComponentLink1Description: Datasheet; ComponentLink1URL: http://www.ti.com/general/docs/lit/getliterature.tsp?genericPartNumber=PCA9545A&fileType=pdf; ComponentLink2Description: Package Specification; ComponentLink2URL: http://www.ti.com/litv/pdf/mpds006c
footprint GQN20 (BGA, 20-Leads, Body 4x3mm, Pitch 0.65mm)
pins: A1 (in) "Address input 1. Connect directly to VCC or ground.", A2 A0 (in) "Address input 0. Connect directly to VCC or ground.", A3 VCC (power) "Supply power", A4 SDA (io) "Serial data line. Connect to VCC through a pullup resistor.", B1 ~{INT0} (in) "Active-low interrupt input 0. Connect to VCC through a pullup resistor.", B2 ~{INT} (oc) "Active-low interrupt output. Connect to VCC through a pullup resistor.", B3 ~{RESET} (in) "Active-low reset input. Connect to VCC through a pullup resistor, if not used.", B4 SCL (io) "Serial clock line. Connect to VCC through a pullup resistor.", C1 SC0 (io) "Serial clock 0. Connect to VCC through a pullup resistor.", C2 SD0 (io) "Serial data 0. Connect to VCC through a pullup resistor.", C3 SD3 (io) "Serial data 3. Connect to VCC through a pullup resistor.", C4 SC3 (io) "Serial clock 3. Connect to VCC through a pullup resistor.", D1 SD1 (io) "Serial data 1. Connect to VCC through a pullup resistor.", D2 SC2 (io) "Serial clock 2. Connect to VCC through a pullup resistor.", D3 ~{INT1} (in) "Active-low interrupt input 1. Connect to VCC through a pullup resistor.", D4 ~{INT3} (in) "Active-low interrupt input 3. Connect to VCC through a pullup resistor.", E1 GND (power) "Ground", E2 SC1 (io) "Serial clock 1. Connect to VCC through a pullup resistor.", E3 ~{INT2} (in) "Active-low interrupt input 2. Connect to VCC through a pullup resistor.", E4 SD2 (io) "Serial data 2. Connect to VCC through a pullup resistor."